# EAGLE library part PINHEAD-1X6 (library chuong)
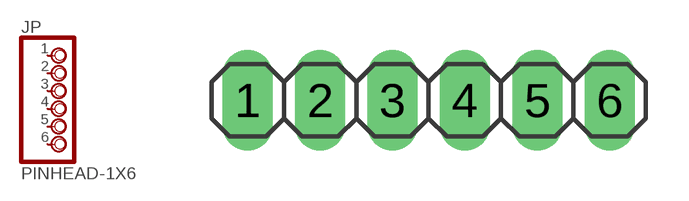
[diagram p17: symbol with the pads of PINHEAD-1X6; footprint PINHEAD-1X6]

Designator prefix JP

## PINHEAD-1X6  [PINHEAD-1X6]
1  1  pas
2  2  pas
3  3  pas
4  4  pas
5  5  pas
6  6  pas

## Footprint PINHEAD-1X6 (pad centres in mm)
drill 0.813 pad 1.778 long: 1 -5.08,0; 2 -2.54,0; 3 0,0; 4 2.54,0; 5 5.08,0; 6 7.62,0